# EAGLE library part IR2520D (library ir)
ADAPTIVE BALLAST CONTROL IC The IR2520D(S) is a complete adaptive ballast controller and 600V half-bridge driver integrated into a single IC for fluorescent lighting applications. Data Sheet No. PD60212 Rev A Source: www.irf.com .. ir2520.pdf
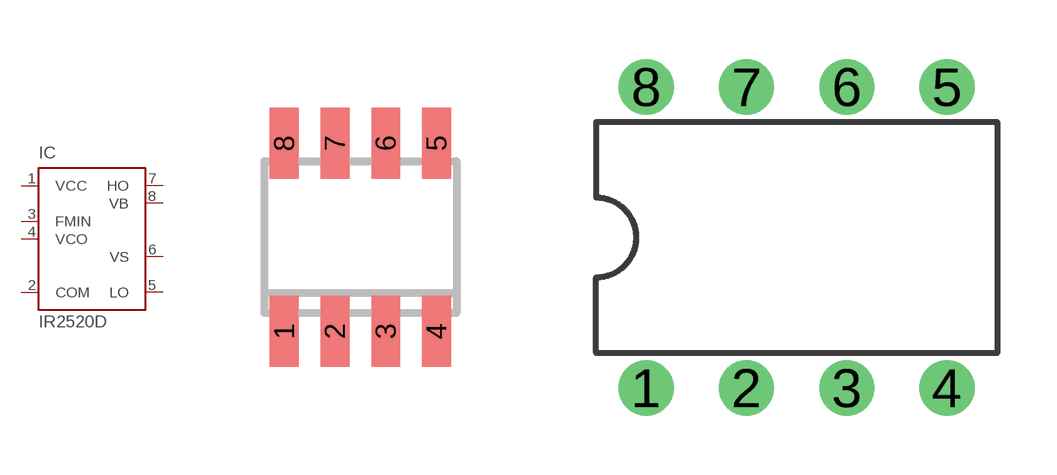
[diagram p0: symbol with the pads of SO08; footprints SO08, DIL08]

Designator prefix IC

## IR2520DS  [SO08]
1  VCC  pwr
2  COM  pwr
3  FMIN  in
4  VCO  in
5  LO  out
6  VS  in
7  HO  out
8  VB  pas

## IR2520D  [DIL08]
Pads as for SO08

## Footprint SO08 (pad centres in mm)
8 Lead SOIC Data Sheet No. PD60212 Rev A Source: www.irf.com .. ir2520.pdf
smd 0.72 x 1.78: 1 -1.905,-2.35; 2 -0.635,-2.35; 3 0.635,-2.35; 4 1.905,-2.35; 5 1.905,2.35; 6 0.635,2.35; 7 -0.635,2.35; 8 -1.905,2.35

## Footprint DIL08 (pad centres in mm)
Dual In Line Package
drill 0.8 pad 1.4 round: 1 -3.81,-3.81; 2 -1.27,-3.81; 3 1.27,-3.81; 4 3.81,-3.81; 5 3.81,3.81; 6 1.27,3.81; 7 -1.27,3.81; 8 -3.81,3.81